# Altium footprint library Con Mains Power.PcbLib: 2 footprints
Each footprint in its own frame and in the unit in brackets; x right, y up, seen from the top. Pads: shape width x height; smd on the part's side, far side on the other; paste and mask are expansions set on the pad; w line width, h text height; cw(c..) or ccw(c..) is an arc to the next point about the centre after c.
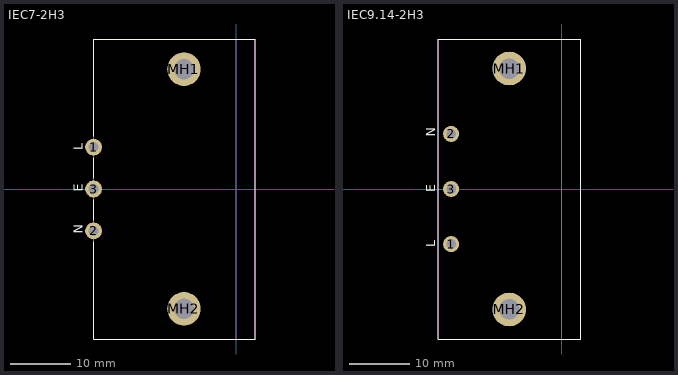
[diagram p0: the footprints below, top view; thin cyan lines are the x and y axes]

## IEC7-2H3 [mm] "Mains Power Outlet, IEC60 320-2-2 F, PC Flange Rear Mount"
height 30.4
pads (5):
  round 2.8 hole 1.7: 1(-23.8,7) 2(-23.8,-7) 3(-23.8,0)
  round 5.6 hole 3.4: MH1(-8.7,20) MH2(-8.7,-20)
Top Overlay:
  lines w0.2: -23.8,-8.8 -23.8,-25.05 3.2,-25.05 3.2,25.05 -23.8,25.05 -23.8,8.8 ; -23.8,-5.2 -23.8,-1.8 ; -23.8,1.8 -23.8,5.2
  text "N" at -25.6,-7.5 h1.5
  text "E" at -25.6,-0.5 h1.5
  text "L" at -25.6,6.5 h1.5
Mechanical 1:
  lines w0.1: 0,-25.05 0,25.05
  text "PCB Edge" at -0.4,-24.4 h0.5
Mechanical 13:
  lines w0.1: -23.8,-25.05 3.2,-25.05 3.2,25.05 -23.8,25.05 -23.8,-25.05
3D body: height 30.4, standoff 0, extent -23.8,-25.05 3.2,25.05

## IEC9.14-2H3 [mm] "Mains Power Inlet, IEC60 320-1 C14, PC Flange Rear Mount"
height 27.8
pads (5):
  round 2.65 hole 1.6: 1(-18.35,-9.14) 2(-18.35,9.14) 3(-18.35,0)
  round 5.6 hole 3.4: MH1(-8.7,20) MH2(-8.7,-20)
Top Overlay:
  lines w0.2: -20.5,-24.9 -20.5,24.9 3.2,24.9 3.2,-24.9 -20.5,-24.9
  text "N" at -21,8.64 h1.5
  text "E" at -21,-0.5 h1.5
  text "L" at -21,-9.64 h1.5
Mechanical 1:
  lines w0.1: 0,-24.9 0,24.9
  text "PCB Edge" at -0.383,-24.4 h0.5
Mechanical 13:
  lines w0.1: -20.5,-24.9 -20.5,24.9 3.2,24.9 3.2,-24.9 -20.5,-24.9
3D body: height 27.8, standoff 0, extent -20.5,-24.9 3.2,24.9